# EAGLE library part LT1763IS8 (library MYPARTS)
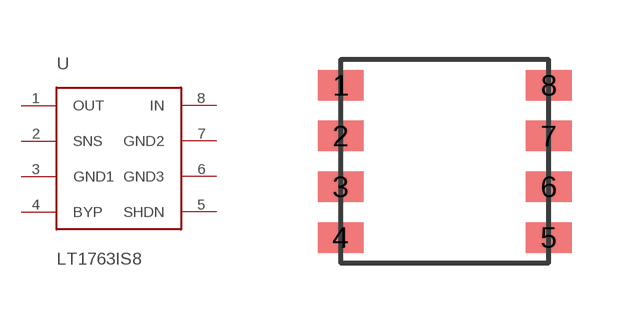
[diagram p0: symbol with the pads of LT1763IS8-SMD; footprint LT1763IS8-SMD]

Designator prefix -

## LT1763IS8  [LT1763IS8-SMD]
1  OUT
2  SNS
3  GND1
4  BYP
5  SHDN
6  GND3
7  GND2
8  IN

## Footprint LT1763IS8-SMD (pad centres in mm)
smd 1.143 x 0.762: 1 0,0; 2 0,-1.27; 3 0,-2.54; 4 0,-3.81; 5 5.207,-3.81; 6 5.207,-2.54; 7 5.207,-1.27; 8 5.207,0